# EAGLE library part LT3464 (library everykey)
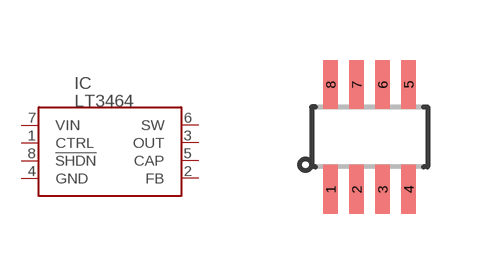
[diagram p24: symbol with the pads of SOT23-8; footprint SOT23-8]

Designator prefix IC

## LT3464  [SOT23-8]
1  CTRL
2  FB
3  OUT  pwr
4  GND  pwr
5  CAP
6  SW
7  VIN  pwr
8  !SHDN  in

## Footprint SOT23-8 (pad centres in mm)
SOT-23 / TSOT-23 package with 8 pins, TS8 by Linear
smd 0.36 x 1.22: 1 -0.975,-1.31; 2 -0.325,-1.31; 3 0.325,-1.31; 4 0.975,-1.31; 5 0.975,1.31; 6 0.325,1.31; 7 -0.325,1.31; 8 -0.975,1.31